# EAGLE library part PSOC6_6347BZI (library SparkFun-IC-Microcontroller)
PSoC6 with Dual core M0+, M4, BLE 1MB Flash, 288k SRAM, BGA-116 pkg
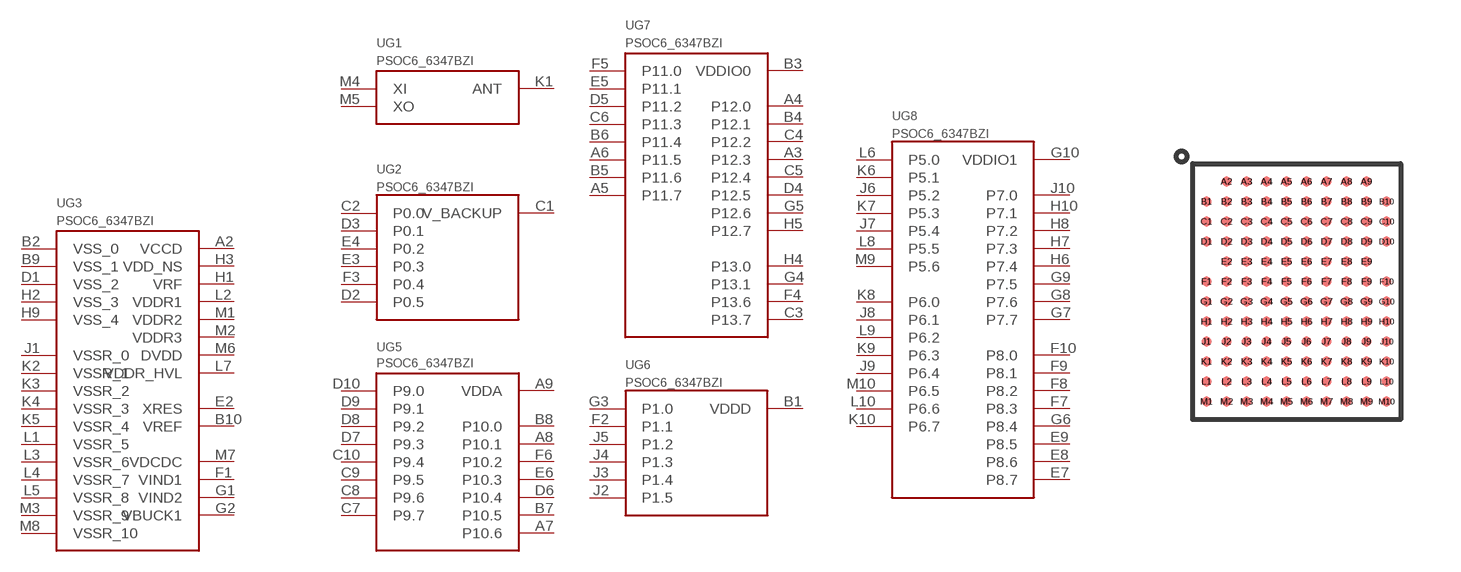
[diagram p7: symbol with the pads of BGA-116; footprint BGA-116]

Designator prefix U; gates G1=CY8C6347BZI_ASST G2=CY8C6347BZI_P0_P1 G3=CY8C6347BZI_SUPPLY G5=CY8C6347BZI_VDDA G6=CY8C6347BZI_VDDD G7=CY8C6347BZI_VDDIO0 G8=CY8C6347BZI_VDDIO1

## PSOC6_6347BZI (VALUE: CY8C6347BZI)  [BGA-116]
A2  G3:VCCD
A3  G7:P12.3
A4  G7:P12.0
A5  G7:P11.7
A6  G7:P11.5
A7  G5:P10.6
A8  G5:P10.1
A9  G5:VDDA
B1  G6:VDDD
B2  G3:VSS_0
B3  G7:VDDIO0
B4  G7:P12.1
B5  G7:P11.6
B6  G7:P11.4
B7  G5:P10.5
B8  G5:P10.0
B9  G3:VSS_1
B10  G3:VREF
C1  G2:V_BACKUP
C2  G2:P0.0
C3  G7:P13.7
C4  G7:P12.2
C5  G7:P12.4
C6  G7:P11.3
C7  G5:P9.7
C8  G5:P9.6
C9  G5:P9.5
C10  G5:P9.4
D1  G3:VSS_2
D2  G2:P0.5
D3  G2:P0.1
D4  G7:P12.5
D5  G7:P11.2
D6  G5:P10.4
D7  G5:P9.3
D8  G5:P9.2
D9  G5:P9.1
D10  G5:P9.0
E2  G3:XRES
E3  G2:P0.3
E4  G2:P0.2
E5  G7:P11.1
E6  G5:P10.3
E7  G8:P8.7
E8  G8:P8.6
E9  G8:P8.5
F1  G3:VIND1
F2  G6:P1.1
F3  G2:P0.4
F4  G7:P13.6
F5  G7:P11.0
F6  G5:P10.2
F7  G8:P8.3
F8  G8:P8.2
F9  G8:P8.1
F10  G8:P8.0
G1  G3:VIND2
G2  G3:VBUCK1
G3  G6:P1.0
G4  G7:P13.1
G5  G7:P12.6
G6  G8:P8.4
G7  G8:P7.7
G8  G8:P7.6
G9  G8:P7.5
G10  G8:VDDIO1
H1  G3:VRF
H2  G3:VSS_3
H3  G3:VDD_NS
H4  G7:P13.0
H5  G7:P12.7
H6  G8:P7.4
H7  G8:P7.3
H8  G8:P7.2
H9  G3:VSS_4
H10  G8:P7.1
J1  G3:VSSR_0
J2  G6:P1.5
J3  G6:P1.4
J4  G6:P1.3
J5  G6:P1.2
J6  G8:P5.2
J7  G8:P5.4
J8  G8:P6.1
J9  G8:P6.4
J10  G8:P7.0
K1  G1:ANT
K2  G3:VSSR_1
K3  G3:VSSR_2
K4  G3:VSSR_3
K5  G3:VSSR_4
K6  G8:P5.1
K7  G8:P5.3
K8  G8:P6.0
K9  G8:P6.3
K10  G8:P6.7
L1  G3:VSSR_5
L2  G3:VDDR1
L3  G3:VSSR_6
L4  G3:VSSR_7
L5  G3:VSSR_8
L6  G8:P5.0
L7  G3:VDDR_HVL
L8  G8:P5.5
L9  G8:P6.2
L10  G8:P6.6
M1  G3:VDDR2
M2  G3:VDDR3
M3  G3:VSSR_9
M4  G1:XI
M5  G1:XO
M6  G3:DVDD
M7  G3:VDCDC
M8  G3:VSSR_10
M9  G8:P5.6
M10  G8:P6.5

## Footprint BGA-116 (pad centres in mm)
smd 0.25 x 0.25: A2 -1.75,2.75; A3 -1.25,2.75; A4 -0.75,2.75; A5 -0.25,2.75; A6 0.25,2.75; A7 0.75,2.75; A8 1.25,2.75; A9 1.75,2.75; B1 -2.25,2.25; B2 -1.75,2.25; B3 -1.25,2.25; B4 -0.75,2.25; B5 -0.25,2.25; B6 0.25,2.25; B7 0.75,2.25; B8 1.25,2.25; B9 1.75,2.25; B10 2.25,2.25; C1 -2.25,1.75; C2 -1.75,1.75; C3 -1.25,1.75; C4 -0.75,1.75; C5 -0.25,1.75; C6 0.25,1.75; C7 0.75,1.75; C8 1.25,1.75; C9 1.75,1.75; C10 2.25,1.75; D1 -2.25,1.25; D2 -1.75,1.25; D3 -1.25,1.25; D4 -0.75,1.25; D5 -0.25,1.25; D6 0.25,1.25; D7 0.75,1.25; D8 1.25,1.25; D9 1.75,1.25; D10 2.25,1.25; E2 -1.75,0.75; E3 -1.25,0.75; E4 -0.75,0.75; E5 -0.25,0.75; E6 0.25,0.75; E7 0.75,0.75; E8 1.25,0.75; E9 1.75,0.75; F1 -2.25,0.25; F2 -1.75,0.25; F3 -1.25,0.25; F4 -0.75,0.25; F5 -0.25,0.25; F6 0.25,0.25; F7 0.75,0.25; F8 1.25,0.25; F9 1.75,0.25; F10 2.25,0.25; G1 -2.25,-0.25; G2 -1.75,-0.25; G3 -1.25,-0.25; G4 -0.75,-0.25; G5 -0.25,-0.25; G6 0.25,-0.25; G7 0.75,-0.25; G8 1.25,-0.25; G9 1.75,-0.25; G10 2.25,-0.25; H1 -2.25,-0.75; H2 -1.75,-0.75; H3 -1.25,-0.75; H4 -0.75,-0.75; H5 -0.25,-0.75; H6 0.25,-0.75; H7 0.75,-0.75; H8 1.25,-0.75; H9 1.75,-0.75; H10 2.25,-0.75; J1 -2.25,-1.25; J2 -1.75,-1.25; J3 -1.25,-1.25; J4 -0.75,-1.25; J5 -0.25,-1.25; J6 0.25,-1.25; J7 0.75,-1.25; J8 1.25,-1.25; J9 1.75,-1.25; J10 2.25,-1.25; K1 -2.25,-1.75; K2 -1.75,-1.75; K3 -1.25,-1.75; K4 -0.75,-1.75; K5 -0.25,-1.75; K6 0.25,-1.75; K7 0.75,-1.75; K8 1.25,-1.75; K9 1.75,-1.75; K10 2.25,-1.75; L1 -2.25,-2.25; L2 -1.75,-2.25; L3 -1.25,-2.25; L4 -0.75,-2.25; L5 -0.25,-2.25; L6 0.25,-2.25; L7 0.75,-2.25; L8 1.25,-2.25; L9 1.75,-2.25; L10 2.25,-2.25; M1 -2.25,-2.75; M2 -1.75,-2.75; M3 -1.25,-2.75; M4 -0.75,-2.75; M5 -0.25,-2.75; M6 0.25,-2.75; M7 0.75,-2.75; M8 1.25,-2.75; M9 1.75,-2.75; M10 2.25,-2.75